# EAGLE library part TDA7313_SO28 (library TDA7313)
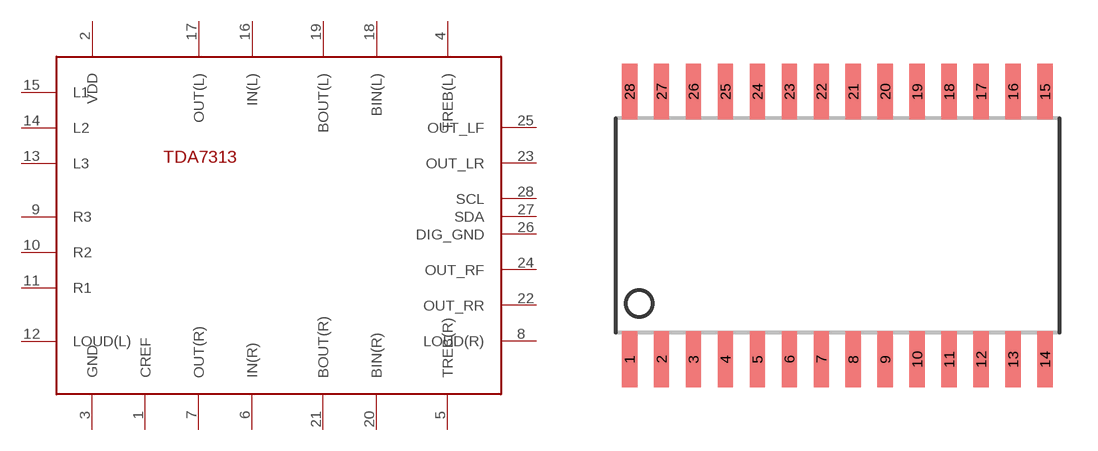
[diagram p1: symbol with the pads of SO28; footprint SO28]

Designator prefix -

## TDA7313_SO28  [SO28]
1  CREF
2  VDD
3  GND
4  TREB(L)
5  TREB(R)
6  IN(R)
7  OUT(R)
8  LOUD(R)
9  R3
10  R2
11  R1
12  LOUD(L)
13  L3
14  L2
15  L1
16  IN(L)
17  OUT(L)
18  BIN(L)
19  BOUT(L)
20  BIN(R)
21  BOUT(R)
22  OUT_RR
23  OUT_LR
24  OUT_RF
25  OUT_LF
26  DIG_GND
27  SDA
28  SCL

## Footprint SO28 (pad centres in mm)
smd 0.61 x 2.21: 1 -8.255,-5.315; 2 -6.985,-5.315; 3 -5.715,-5.315; 4 -4.445,-5.315; 5 -3.175,-5.315; 6 -1.905,-5.315; 7 -0.635,-5.315; 8 0.635,-5.315; 9 1.905,-5.315; 10 3.175,-5.315; 11 4.445,-5.315; 12 5.715,-5.315; 13 6.985,-5.315; 14 8.255,-5.315; 15 8.255,5.315; 16 6.985,5.315; 17 5.715,5.315; 18 4.445,5.315; 19 3.175,5.315; 20 1.905,5.315; 21 0.635,5.315; 22 -0.635,5.315; 23 -1.905,5.315; 24 -3.175,5.315; 25 -4.445,5.315; 26 -5.715,5.315; 27 -6.985,5.315; 28 -8.255,5.315